# Altium footprint library PcbLib1.PcbLib: 1 footprints
Each footprint in its own frame and in the unit in brackets; x right, y up, seen from the top. Pads: shape width x height; smd on the part's side, far side on the other; paste and mask are expansions set on the pad; w line width, h text height; cw(c..) or ccw(c..) is an arc to the next point about the centre after c.
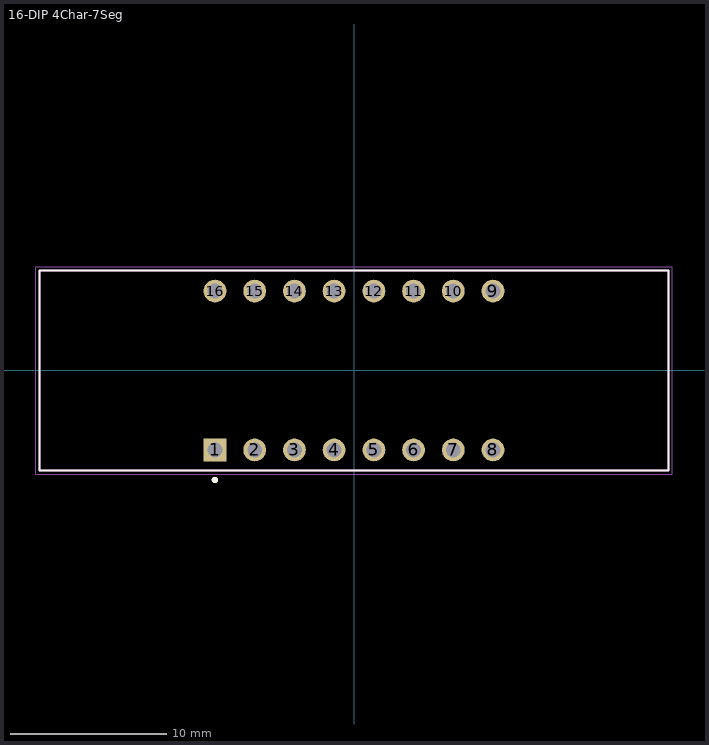
[diagram p0: the footprint, top view; thin cyan lines are the x and y axes]

## 16-DIP 4Char-7Seg [mm]
pads (16):
  rect 1.458x1.458 / inner round 1.458 / far side rect 1.458x1.458 hole 0.95: 1(-8.89,-5.08)
  round 1.458 hole 0.95: 2(-6.35,-5.08) 3(-3.81,-5.08) 4(-1.27,-5.08) 5(1.27,-5.08) 6(3.81,-5.08) 7(6.35,-5.08) 8(8.89,-5.08) 9(8.89,5.08) 10(6.35,5.08) 11(3.81,5.08) 12(1.27,5.08) 13(-1.27,5.08) 14(-3.81,5.08) 15(-6.35,5.08) 16(-8.89,5.08)
Top Overlay:
  circle w0.2: c-8.9,-7 r0.1
  lines w0.127: -20.1,-6.4 -20.1,6.4 20.1,6.4 20.1,-6.4 -20.1,-6.4
Mechanical 13:
  circle w0.2: c-8.9,-7 r0.1
  lines w0.127: -20.1,-6.4 -20.1,6.4 20.1,6.4 20.1,-6.4 -20.1,-6.4
Mechanical 15:
  lines w0.05: -20.35,-6.65 20.35,-6.65 20.35,6.65 -20.35,6.65 -20.35,-6.65
3D body "step_temp.STEP": height 7, standoff -3.5, extent -20.1,-6.4 20.1,6.4